# Altium footprint library CONV_ME2108A33P.PcbLib: 1 footprints
Each footprint in its own frame and in the unit in brackets; x right, y up, seen from the top. Pads: shape width x height; smd on the part's side, far side on the other; paste and mask are expansions set on the pad; w line width, h text height; cw(c..) or ccw(c..) is an arc to the next point about the centre after c.
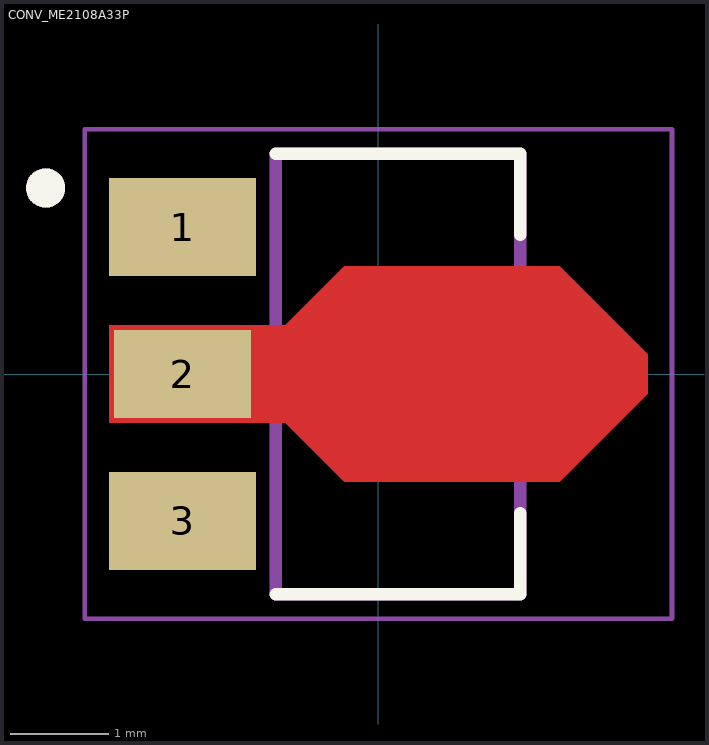
[diagram p0: the footprint, top view; thin cyan lines are the x and y axes]

## CONV_ME2108A33P [mm]
pads (3):
  rect 1.5x1 smd mask+0: 1(-2,1.5) 3(-2,-1.5)
  rect 1.4x0.9 smd paste-2 mask+0: 2(-2,0)
Top Layer:
  region: 2.75,0.2 2.75,-0.2 1.85,-1.1 -0.35,-1.1 -0.95,-0.5 -2.75,-0.5 -2.75,0.5 -0.95,0.5 -0.35,1.1 1.85,1.1
Top Overlay:
  circle w0.2: c-3.4,1.9 r0.1
  lines w0.127: -1.05,-2.25 1.45,-2.25 1.45,-1.42 ; -1.05,2.25 1.45,2.25 1.45,1.42
Top Paste:
  region: 2.75,0.2 2.75,-0.2 1.85,-1.1 -0.35,-1.1 -0.95,-0.5 -2.75,-0.5 -2.75,0.5 -0.95,0.5 -0.35,1.1 1.85,1.1
Top Solder:
  region: 2.82,0.235 2.82,-0.235 1.885,-1.17 -0.385,-1.17 -0.985,-0.57 -2.82,-0.57 -2.82,0.57 -0.985,0.57 -0.385,1.17 1.885,1.17
  region: -1.18,0.93 -2.82,0.93 -2.82,2.07 -1.18,2.07
  region: -1.18,-2.07 -2.82,-2.07 -2.82,-0.93 -1.18,-0.93
Mechanical 13:
  circle w0.2: c-3.4,1.9 r0.1
  lines w0.127: -1.05,-2.25 1.45,-2.25 1.45,2.25 -1.05,2.25 -1.05,-2.25
Mechanical 15:
  lines w0.05: -3,-2.5 3,-2.5 3,2.5 -3,2.5 -3,-2.5
3D body "step_temp.STEP": height 1.6, standoff 0, extent -2.6,-2.25 1.65,2.25